# Altium integrated library NSC Legacy.IntLib: 687 symbols (part 7 of 17)
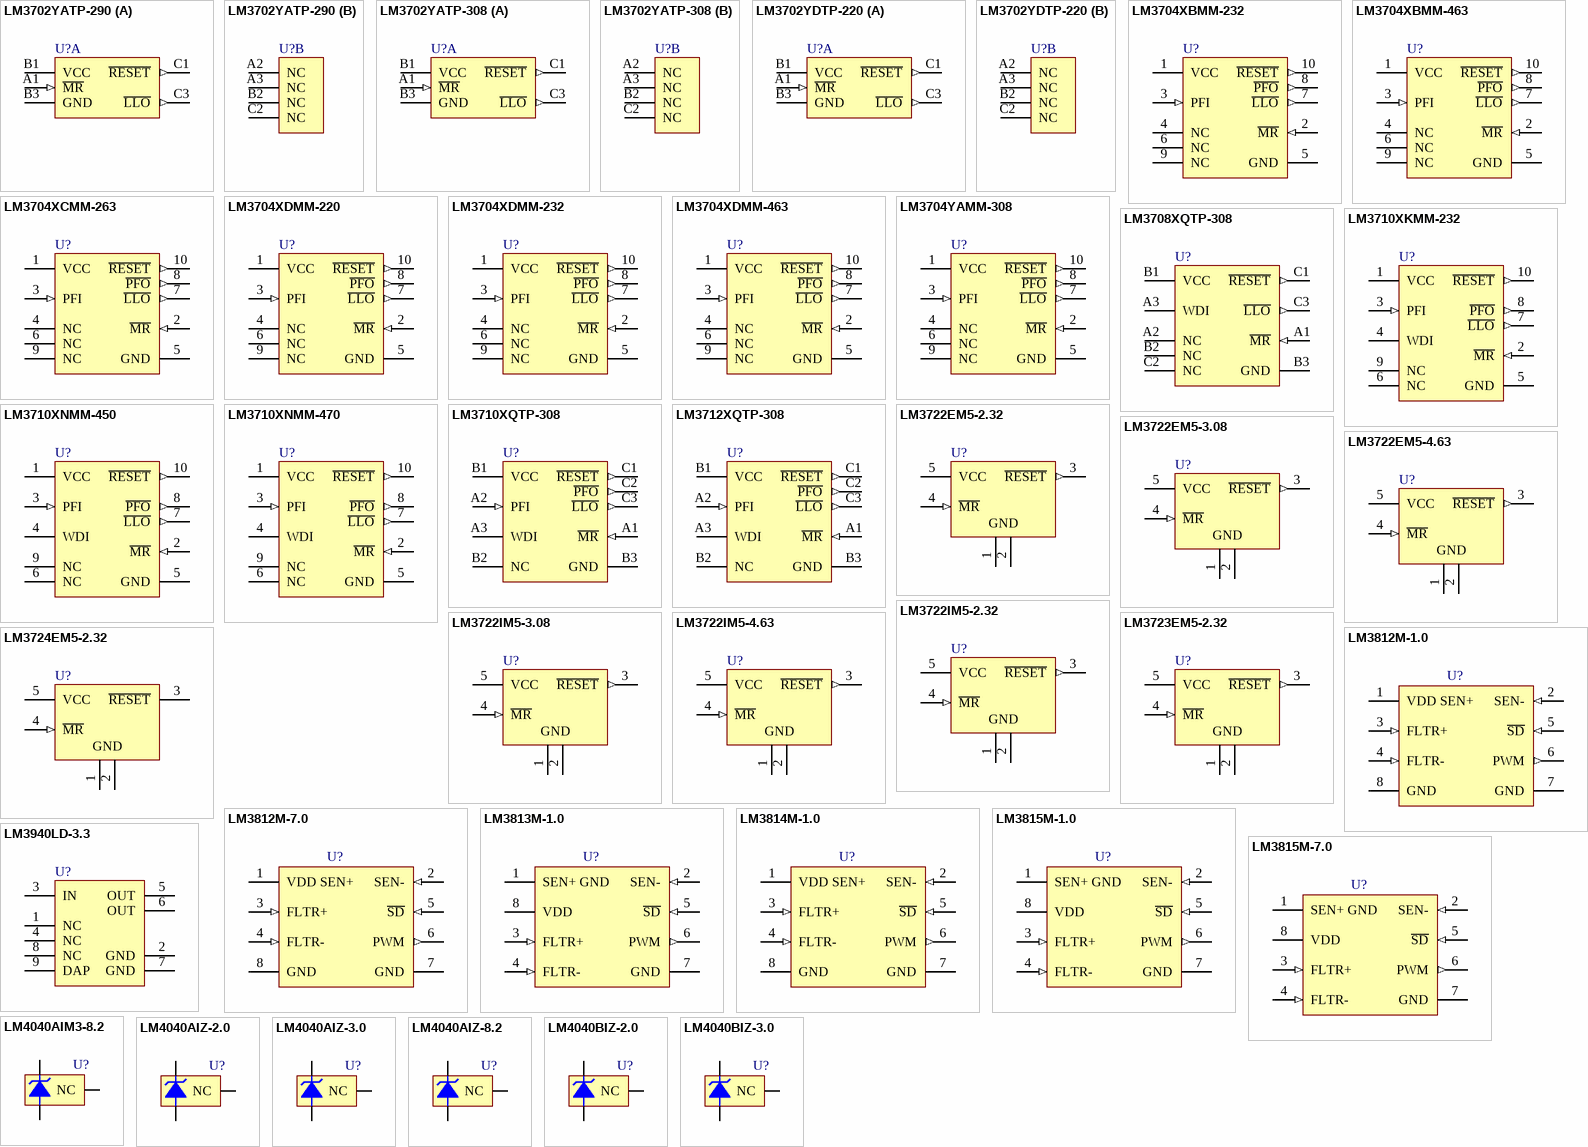
[diagram p30: symbols LM3702YATP-290 to LM4040BIZ-3.0]

## LM3708XQTP-308
designator U?
Microprocessor Supervisory Circuits with Low Line Output, Manual Reset and Watchdog Timer, 9-pin Micro SMD; PartNumber: LM3708XQTP-308; Manufacturer: National Semiconductor; PackageTopMarking: XVR*I 36; PowerWise: N; CompType: MiscPower; Published: 4-Dec-2008; DatasheetVersion: Jun-2002; PackageVersion: revA, Mar-2002; PackageReference: TPA09FFA; Publisher: Altium Limited; PackageDescription: Thin Micro SMD, 9 Bump, 0.5mm Pitch; RoHS: Y; PinCount: 9; Code_JEDEC: MO-211-BC; ComponentLink1Description: LM3708 Datasheet; ComponentLink1URL: http://www.national.com/ds/LM/LM3708.pdf; ComponentLink2Description: LM3708 Web Page; ComponentLink2URL: http://www.national.com/pf/LM/LM3708.html; ComponentLink3Description: TPA09FFA Package Page; ComponentLink3URL: http://www.national.com/packaging/folders/tpa09ffa.html
footprint TPA09FFA (Micro SMD, 9-Leads, Body 1.41x1.41mm, Pitch 0.5mm, NSC Recommended)
pins: A1 ~{MR} (in), A2 NC, A3 WDI, B1 VCC (power), B2 NC, B3 GND (power), C1 ~{RESET} (out), C2 NC, C3 ~{LLO} (out)

## LM3710XKMM-232
designator U?
Microprocessor Supervisory Circuits with Power Fail Input, Low Line Output, Manual Reset and Watchdog Timer, 10-pin MSOP; PartNumber: LM3710XKMM-232; Manufacturer: National Semiconductor; PackageTopMarking: ZXTT*R72B; CompType: MiscPower; Published: 4-Dec-2008; DatasheetVersion: Jan-2005; PackageVersion: revB, Jul-2003; PackageReference: MUB10A; Publisher: Altium Limited; PackageDescription: Mini-SO, Molded, .118 x .118 x .034in Body, 10 Lead, .0197in Pitch; RoHS: Y; PinCount: 10; Code_JEDEC: MO-187-BA; ComponentLink1Description: LM3710 Datasheet; ComponentLink1URL: http://www.national.com/ds/LM/LM3710.pdf; ComponentLink2Description: LM3710 Web Page; ComponentLink2URL: http://www.national.com/pf/LM/LM3710.html; ComponentLink3Description: MUB10A Package Page; ComponentLink3URL: http://www.national.com/packaging/folders/mub10a.html
footprint MUB10A_N (TSSOP, 10-Leads, Body 3x3mm, Pitch 0.5mm, IPC Medium Density)
footprint MUB10A_L (TSSOP, 10-Leads, Body 3x3mm, Pitch 0.5mm, IPC High Density)
footprint MUB10A_M (TSSOP, 10-Leads, Body 3x3mm, Pitch 0.5mm, IPC Low Density)
pins: 1 VCC (power), 2 ~{MR} (in), 3 PFI (in), 4 WDI, 5 GND (power), 6 NC, 7 ~{LLO} (out), 8 ~{PFO} (out), 9 NC, 10 ~{RESET} (out)

## LM3710XNMM-450
designator U?
Microprocessor Supervisory Circuits with Power Fail Input, Low Line Output, Manual Reset and Watchdog Timer, 10-pin MSOP; PartNumber: LM3710XNMM-450; Manufacturer: National Semiconductor; PackageTopMarking: ZXTT*R84B; CompType: MiscPower; Published: 4-Dec-2008; DatasheetVersion: Jan-2005; PackageVersion: revB, Jul-2003; PackageReference: MUB10A; Publisher: Altium Limited; PackageDescription: Mini-SO, Molded, .118 x .118 x .034in Body, 10 Lead, .0197in Pitch; RoHS: Y; PinCount: 10; Code_JEDEC: MO-187-BA; ComponentLink1Description: LM3710 Datasheet; ComponentLink1URL: http://www.national.com/ds/LM/LM3710.pdf; ComponentLink2Description: LM3710 Web Page; ComponentLink2URL: http://www.national.com/pf/LM/LM3710.html; ComponentLink3Description: MUB10A Package Page; ComponentLink3URL: http://www.national.com/packaging/folders/mub10a.html
footprint MUB10A_N (TSSOP, 10-Leads, Body 3x3mm, Pitch 0.5mm, IPC Medium Density)
footprint MUB10A_L (TSSOP, 10-Leads, Body 3x3mm, Pitch 0.5mm, IPC High Density)
footprint MUB10A_M (TSSOP, 10-Leads, Body 3x3mm, Pitch 0.5mm, IPC Low Density)
pins: 1 VCC (power), 2 ~{MR} (in), 3 PFI (in), 4 WDI, 5 GND (power), 6 NC, 7 ~{LLO} (out), 8 ~{PFO} (out), 9 NC, 10 ~{RESET} (out)

## LM3710XNMM-470
designator U?
Microprocessor Supervisory Circuits with Power Fail Input, Low Line Output, Manual Reset and Watchdog Timer, 10-pin MSOP; PartNumber: LM3710XNMM-470; Manufacturer: National Semiconductor; PackageTopMarking: ZXTT*R83B; CompType: MiscPower; Published: 4-Dec-2008; DatasheetVersion: Jan-2005; PackageVersion: revB, Jul-2003; PackageReference: MUB10A; Publisher: Altium Limited; PackageDescription: Mini-SO, Molded, .118 x .118 x .034in Body, 10 Lead, .0197in Pitch; RoHS: Y; PinCount: 10; Code_JEDEC: MO-187-BA; ComponentLink1Description: LM3710 Datasheet; ComponentLink1URL: http://www.national.com/ds/LM/LM3710.pdf; ComponentLink2Description: LM3710 Web Page; ComponentLink2URL: http://www.national.com/pf/LM/LM3710.html; ComponentLink3Description: MUB10A Package Page; ComponentLink3URL: http://www.national.com/packaging/folders/mub10a.html
footprint MUB10A_N (TSSOP, 10-Leads, Body 3x3mm, Pitch 0.5mm, IPC Medium Density)
footprint MUB10A_L (TSSOP, 10-Leads, Body 3x3mm, Pitch 0.5mm, IPC High Density)
footprint MUB10A_M (TSSOP, 10-Leads, Body 3x3mm, Pitch 0.5mm, IPC Low Density)
pins: 1 VCC (power), 2 ~{MR} (in), 3 PFI (in), 4 WDI, 5 GND (power), 6 NC, 7 ~{LLO} (out), 8 ~{PFO} (out), 9 NC, 10 ~{RESET} (out)

## LM3710XQTP-308
designator U?
Microprocessor Supervisory Circuits with Power Fail Input, Low Line Output, Manual Reset and Watchdog Timer, 9-pin Micro SMD; PartNumber: LM3710XQTP-308; Manufacturer: National Semiconductor; PackageTopMarking: XVR*I 40; PowerWise: N; CompType: MiscPower; Published: 4-Dec-2008; DatasheetVersion: Jan-2005; PackageVersion: revA, Mar-2002; PackageReference: TPA09FFA; Publisher: Altium Limited; PackageDescription: Thin Micro SMD, 9 Bump, 0.5mm Pitch; RoHS: Y; PinCount: 9; Code_JEDEC: MO-211-BC; ComponentLink1Description: LM3710 Datasheet; ComponentLink1URL: http://www.national.com/ds/LM/LM3710.pdf; ComponentLink2Description: LM3710 Web Page; ComponentLink2URL: http://www.national.com/pf/LM/LM3710.html; ComponentLink3Description: TPA09FFA Package Page; ComponentLink3URL: http://www.national.com/packaging/folders/tpa09ffa.html
footprint TPA09FFA (Micro SMD, 9-Leads, Body 1.41x1.41mm, Pitch 0.5mm, NSC Recommended)
pins: A1 ~{MR} (in), A2 PFI (in), A3 WDI, B1 VCC (power), B2 NC, B3 GND (power), C1 ~{RESET} (out), C2 ~{PFO} (out), C3 ~{LLO} (out)

## LM3712XQTP-308
designator U?
Microprocessor Supervisory Circuits with Separate Watchdog Timer Output, Power Fail Input and Manual Reset, 9-pin Micro SMD; PartNumber: LM3712XQTP-308; Manufacturer: National Semiconductor; PackageTopMarking: XVR*I 41; PowerWise: N; CompType: MiscPower; Published: 4-Dec-2008; DatasheetVersion: Jan-2005; PackageVersion: revA, Mar-2002; PackageReference: TPA09FFA; Publisher: Altium Limited; PackageDescription: Thin Micro SMD, 9 Bump, 0.5mm Pitch; RoHS: Y; PinCount: 9; Code_JEDEC: MO-211-BC; ComponentLink1Description: LM3712 Datasheet; ComponentLink1URL: http://www.national.com/ds/LM/LM3710.pdf; ComponentLink2Description: LM3712 Web Page; ComponentLink2URL: http://www.national.com/pf/LM/LM3712.html; ComponentLink3Description: TPA09FFA Package Page; ComponentLink3URL: http://www.national.com/packaging/folders/tpa09ffa.html
footprint TPA09FFA (Micro SMD, 9-Leads, Body 1.41x1.41mm, Pitch 0.5mm, NSC Recommended)
pins: A1 ~{MR} (in), A2 PFI (in), A3 WDI, B1 VCC (power), B2 NC, B3 GND (power), C1 ~{RESET} (out), C2 ~{PFO} (out), C3 ~{LLO} (out)

## LM3722EM5-2.32
designator U?
Microprocessor Reset Circuits, 5-pin SOT-23; PartNumber: LM3722EM5-2.32; Manufacturer: National Semiconductor; PackageTopMarking: R58B*XTT; CompType: MiscPower; Published: 4-Dec-2008; DatasheetVersion: Jul-2007; PackageVersion: revD, Aug-2008; PackageReference: MF05A; Publisher: Altium Limited; PackageDescription: Molded SOT-23, .115 x .063 x .040 in Body, 5 Lead, .0375 in Pitch; Supplier 1: Farnell; Supplier Part Number 1: 1312726; RoHS: Y; PinCount: 5; ComponentLink1Description: LM3722 Datasheet; ComponentLink1URL: http://www.national.com/ds/LM/LM3722.pdf; ComponentLink2Description: LM3722 Web Page; ComponentLink2URL: http://www.national.com/pf/LM/LM3722.html; ComponentLink3Description: MF05A Package Page; ComponentLink3URL: http://www.national.com/packaging/folders/mf05a.html
footprint MF05A_N (SOT23, 5-Leads, Body 2.9x1.6mm, Pitch 0.95mm, Lead Span 2.8mm, IPC Medium Density)
footprint MF05A_L (SOT23, 5-Leads, Body 2.9x1.6mm, Pitch 0.95mm, Lead Span 2.8mm, IPC High Density)
footprint MF05A_M (SOT23, 5-Leads, Body 2.9x1.6mm, Pitch 0.95mm, Lead Span 2.8mm, IPC Low Density)
pins: 1 GND (power), 2 GND (power), 3 ~{RESET} (out), 4 ~{MR} (in), 5 VCC (power)

## LM3722EM5-3.08
designator U?
Microprocessor Reset Circuits, 5-pin SOT-23; PartNumber: LM3722EM5-3.08; Manufacturer: National Semiconductor; PackageTopMarking: R57B*XTT; CompType: MiscPower; Published: 4-Dec-2008; DatasheetVersion: Jul-2007; PackageVersion: revD, Aug-2008; PackageReference: MF05A; Publisher: Altium Limited; PackageDescription: Molded SOT-23, .115 x .063 x .040 in Body, 5 Lead, .0375 in Pitch; Supplier 1: Farnell; Supplier Part Number 1: 1312727; RoHS: Y; PinCount: 5; ComponentLink1Description: LM3722 Datasheet; ComponentLink1URL: http://www.national.com/ds/LM/LM3722.pdf; ComponentLink2Description: LM3722 Web Page; ComponentLink2URL: http://www.national.com/pf/LM/LM3722.html; ComponentLink3Description: MF05A Package Page; ComponentLink3URL: http://www.national.com/packaging/folders/mf05a.html
footprint MF05A_N (SOT23, 5-Leads, Body 2.9x1.6mm, Pitch 0.95mm, Lead Span 2.8mm, IPC Medium Density)
footprint MF05A_L (SOT23, 5-Leads, Body 2.9x1.6mm, Pitch 0.95mm, Lead Span 2.8mm, IPC High Density)
footprint MF05A_M (SOT23, 5-Leads, Body 2.9x1.6mm, Pitch 0.95mm, Lead Span 2.8mm, IPC Low Density)
pins: 1 GND (power), 2 GND (power), 3 ~{RESET} (out), 4 ~{MR} (in), 5 VCC (power)

## LM3722EM5-4.63
designator U?
Microprocessor Reset Circuits, 5-pin SOT-23; PartNumber: LM3722EM5-4.63; Manufacturer: National Semiconductor; PackageTopMarking: R56B*XTT; PowerWise: N; CompType: MiscPower; Published: 4-Dec-2008; DatasheetVersion: Jul-2007; PackageVersion: revD, Aug-2008; PackageReference: MF05A; Publisher: Altium Limited; PackageDescription: Molded SOT-23, .115 x .063 x .040 in Body, 5 Lead, .0375 in Pitch; Supplier 1: Farnell; Supplier Part Number 1: 1312729; RoHS: Y; PinCount: 5; ComponentLink1Description: LM3722 Datasheet; ComponentLink1URL: http://www.national.com/ds/LM/LM3722.pdf; ComponentLink2Description: LM3722 Web Page; ComponentLink2URL: http://www.national.com/pf/LM/LM3722.html; ComponentLink3Description: MF05A Package Page; ComponentLink3URL: http://www.national.com/packaging/folders/mf05a.html
footprint MF05A_N (SOT23, 5-Leads, Body 2.9x1.6mm, Pitch 0.95mm, Lead Span 2.8mm, IPC Medium Density)
footprint MF05A_L (SOT23, 5-Leads, Body 2.9x1.6mm, Pitch 0.95mm, Lead Span 2.8mm, IPC High Density)
footprint MF05A_M (SOT23, 5-Leads, Body 2.9x1.6mm, Pitch 0.95mm, Lead Span 2.8mm, IPC Low Density)
pins: 1 GND (power), 2 GND (power), 3 ~{RESET} (out), 4 ~{MR} (in), 5 VCC (power)

## LM3722IM5-2.32
designator U?
Microprocessor Reset Circuits, 5-pin SOT-23; PartNumber: LM3722IM5-2.32; Manufacturer: National Semiconductor; PackageTopMarking: R34B*XTT; PowerWise: N; CompType: MiscPower; Published: 4-Dec-2008; DatasheetVersion: Jul-2007; PackageVersion: revD, Aug-2008; PackageReference: MF05A; Publisher: Altium Limited; PackageDescription: Molded SOT-23, .115 x .063 x .040 in Body, 5 Lead, .0375 in Pitch; Supplier 1: Farnell; Supplier Part Number 1: 9779000; RoHS: Y; PinCount: 5; ComponentLink1Description: LM3722 Datasheet; ComponentLink1URL: http://www.national.com/ds/LM/LM3722.pdf; ComponentLink2Description: LM3722 Web Page; ComponentLink2URL: http://www.national.com/pf/LM/LM3722.html; ComponentLink3Description: MF05A Package Page; ComponentLink3URL: http://www.national.com/packaging/folders/mf05a.html
footprint MF05A_N (SOT23, 5-Leads, Body 2.9x1.6mm, Pitch 0.95mm, Lead Span 2.8mm, IPC Medium Density)
footprint MF05A_L (SOT23, 5-Leads, Body 2.9x1.6mm, Pitch 0.95mm, Lead Span 2.8mm, IPC High Density)
footprint MF05A_M (SOT23, 5-Leads, Body 2.9x1.6mm, Pitch 0.95mm, Lead Span 2.8mm, IPC Low Density)
pins: 1 GND (power), 2 GND (power), 3 ~{RESET} (out), 4 ~{MR} (in), 5 VCC (power)

## LM3722IM5-3.08
designator U?
Microprocessor Reset Circuits, 5-pin SOT-23; PartNumber: LM3722IM5-3.08; Manufacturer: National Semiconductor; PackageTopMarking: R41B*XTT; PowerWise: N; CompType: MiscPower; Published: 4-Dec-2008; DatasheetVersion: Jul-2007; PackageVersion: revD, Aug-2008; PackageReference: MF05A; Publisher: Altium Limited; PackageDescription: Molded SOT-23, .115 x .063 x .040 in Body, 5 Lead, .0375 in Pitch; Supplier 1: Farnell; Supplier Part Number 1: 9779019; RoHS: Y; PinCount: 5; ComponentLink1Description: LM3722 Datasheet; ComponentLink1URL: http://www.national.com/ds/LM/LM3722.pdf; ComponentLink2Description: LM3722 Web Page; ComponentLink2URL: http://www.national.com/pf/LM/LM3722.html; ComponentLink3Description: MF05A Package Page; ComponentLink3URL: http://www.national.com/packaging/folders/mf05a.html
footprint MF05A_N (SOT23, 5-Leads, Body 2.9x1.6mm, Pitch 0.95mm, Lead Span 2.8mm, IPC Medium Density)
footprint MF05A_L (SOT23, 5-Leads, Body 2.9x1.6mm, Pitch 0.95mm, Lead Span 2.8mm, IPC High Density)
footprint MF05A_M (SOT23, 5-Leads, Body 2.9x1.6mm, Pitch 0.95mm, Lead Span 2.8mm, IPC Low Density)
pins: 1 GND (power), 2 GND (power), 3 ~{RESET} (out), 4 ~{MR} (in), 5 VCC (power)

## LM3722IM5-4.63
designator U?
Microprocessor Reset Circuits, 5-pin SOT-23; PartNumber: LM3722IM5-4.63; Manufacturer: National Semiconductor; PackageTopMarking: R43B*XTT; PowerWise: N; CompType: MiscPower; Published: 4-Dec-2008; DatasheetVersion: Jul-2007; PackageVersion: revD, Aug-2008; PackageReference: MF05A; Publisher: Altium Limited; PackageDescription: Molded SOT-23, .115 x .063 x .040 in Body, 5 Lead, .0375 in Pitch; Supplier 1: Farnell; Supplier Part Number 1: 9779027; RoHS: Y; PinCount: 5; ComponentLink1Description: LM3722 Datasheet; ComponentLink1URL: http://www.national.com/ds/LM/LM3722.pdf; ComponentLink2Description: LM3722 Web Page; ComponentLink2URL: http://www.national.com/pf/LM/LM3722.html; ComponentLink3Description: MF05A Package Page; ComponentLink3URL: http://www.national.com/packaging/folders/mf05a.html
footprint MF05A_N (SOT23, 5-Leads, Body 2.9x1.6mm, Pitch 0.95mm, Lead Span 2.8mm, IPC Medium Density)
footprint MF05A_L (SOT23, 5-Leads, Body 2.9x1.6mm, Pitch 0.95mm, Lead Span 2.8mm, IPC High Density)
footprint MF05A_M (SOT23, 5-Leads, Body 2.9x1.6mm, Pitch 0.95mm, Lead Span 2.8mm, IPC Low Density)
pins: 1 GND (power), 2 GND (power), 3 ~{RESET} (out), 4 ~{MR} (in), 5 VCC (power)

## LM3723EM5-2.32
designator U?
Microprocessor Reset Circuits, 5-pin SOT-23; PartNumber: LM3723EM5-2.32; Manufacturer: National Semiconductor; PackageTopMarking: R61B*XTT; CompType: MiscPower; Published: 4-Dec-2008; DatasheetVersion: Jul-2007; PackageVersion: revD, Aug-2008; PackageReference: MF05A; Publisher: Altium Limited; PackageDescription: Molded SOT-23, .115 x .063 x .040 in Body, 5 Lead, .0375 in Pitch; Supplier 1: Farnell; Supplier Part Number 1: 1312731; RoHS: Y; PinCount: 5; ComponentLink1Description: LM3723 Datasheet; ComponentLink1URL: http://www.national.com/ds/LM/LM3723.pdf; ComponentLink2Description: LM3723 Web Page; ComponentLink2URL: http://www.national.com/pf/LM/LM3723.html; ComponentLink3Description: MF05A Package Page; ComponentLink3URL: http://www.national.com/packaging/folders/mf05a.html
footprint MF05A_N (SOT23, 5-Leads, Body 2.9x1.6mm, Pitch 0.95mm, Lead Span 2.8mm, IPC Medium Density)
footprint MF05A_L (SOT23, 5-Leads, Body 2.9x1.6mm, Pitch 0.95mm, Lead Span 2.8mm, IPC High Density)
footprint MF05A_M (SOT23, 5-Leads, Body 2.9x1.6mm, Pitch 0.95mm, Lead Span 2.8mm, IPC Low Density)
pins: 1 GND (power), 2 GND (power), 3 ~{RESET} (out), 4 ~{MR} (in), 5 VCC (power)

## LM3724EM5-2.32
designator U?
Microprocessor Reset Circuits, 5-pin SOT-23; PartNumber: LM3724EM5-2.32; Manufacturer: National Semiconductor; PackageTopMarking: R64B*XTT; CompType: MiscPower; Published: 4-Dec-2008; DatasheetVersion: Jul-2007; PackageVersion: revD, Aug-2008; PackageReference: MF05A; Publisher: Altium Limited; PackageDescription: Molded SOT-23, .115 x .063 x .040 in Body, 5 Lead, .0375 in Pitch; Supplier 1: Farnell; Supplier Part Number 1: 1312734; RoHS: Y; PinCount: 5; ComponentLink1Description: LM3724 Datasheet; ComponentLink1URL: http://www.national.com/ds/LM/LM3724.pdf; ComponentLink2Description: LM3724 Web Page; ComponentLink2URL: http://www.national.com/pf/LM/LM3724.html; ComponentLink3Description: MF05A Package Page; ComponentLink3URL: http://www.national.com/packaging/folders/mf05a.html
footprint MF05A_N (SOT23, 5-Leads, Body 2.9x1.6mm, Pitch 0.95mm, Lead Span 2.8mm, IPC Medium Density)
footprint MF05A_L (SOT23, 5-Leads, Body 2.9x1.6mm, Pitch 0.95mm, Lead Span 2.8mm, IPC High Density)
footprint MF05A_M (SOT23, 5-Leads, Body 2.9x1.6mm, Pitch 0.95mm, Lead Span 2.8mm, IPC Low Density)
pins: 1 GND (power), 2 GND (power), 3 ~{RESET} (oc), 4 ~{MR} (in), 5 VCC (power)

## LM3812M-1.0
designator U?
Precision Current Gauge IC with Ultra-Low Loss Sense Element and PWM Output, for High-Side Sensing, 8-pin Narrow SOIC; PartNumber: LM3812M-1.0; Manufacturer: National Semiconductor; PackageTopMarking: NSZXTT*3812*M-1.0; CompType: MiscPower; Published: 4-Dec-2008; DatasheetVersion: Feb-2005; PackageVersion: revM, May-2009; PackageReference: M08A; Publisher: Altium Limited; PackageDescription: SOIC Narrow, 4.9 x 3.9 x 1.45mm, 8 Lead, 1.27mm Pitch; RoHS: Y; PinCount: 8; Code_JEDEC: MS-012-AA; Code_IPC: SOIC127P600-8; ComponentLink1Description: LM3812 Datasheet; ComponentLink1URL: http://www.national.com/ds/LM/LM3812.pdf; ComponentLink2Description: LM3812 Web Page; ComponentLink2URL: http://www.national.com/pf/LM/LM3812.html; ComponentLink3Description: M08A Package Page; ComponentLink3URL: http://www.national.com/packaging/folders/m08a.html
footprint M08A_N (SOIC, 8-Leads, Body 4.9x3.9mm, Pitch 1.27mm, IPC Medium Density)
footprint M08A_L (SOIC, 8-Leads, Body 4.9x3.9mm, Pitch 1.27mm, IPC High Density)
footprint M08A_M (SOIC, 8-Leads, Body 4.9x3.9mm, Pitch 1.27mm, IPC Low Density)
pins: 1 VDD SEN+ (power), 2 SEN- (in), 3 FLTR+ (in), 4 FLTR- (in), 5 ~{SD} (in), 6 PWM (out), 7 GND (power), 8 GND (power)

## LM3812M-7.0
designator U?
Precision Current Gauge IC with Ultra-Low Loss Sense Element and PWM Output, for High-Side Sensing, 8-pin Narrow SOIC; PartNumber: LM3812M-7.0; Manufacturer: National Semiconductor; PackageTopMarking: NSZXTT*3812*M-7.0; CompType: MiscPower; Published: 4-Dec-2008; DatasheetVersion: Feb-2005; PackageVersion: revM, May-2009; PackageReference: M08A; Publisher: Altium Limited; PackageDescription: SOIC Narrow, 4.9 x 3.9 x 1.45mm, 8 Lead, 1.27mm Pitch; RoHS: Y; PinCount: 8; Code_JEDEC: MS-012-AA; Code_IPC: SOIC127P600-8; ComponentLink1Description: LM3812 Datasheet; ComponentLink1URL: http://www.national.com/ds/LM/LM3812.pdf; ComponentLink2Description: LM3812 Web Page; ComponentLink2URL: http://www.national.com/pf/LM/LM3812.html; ComponentLink3Description: M08A Package Page; ComponentLink3URL: http://www.national.com/packaging/folders/m08a.html
footprint M08A_N (SOIC, 8-Leads, Body 4.9x3.9mm, Pitch 1.27mm, IPC Medium Density)
footprint M08A_L (SOIC, 8-Leads, Body 4.9x3.9mm, Pitch 1.27mm, IPC High Density)
footprint M08A_M (SOIC, 8-Leads, Body 4.9x3.9mm, Pitch 1.27mm, IPC Low Density)
pins: 1 VDD SEN+ (power), 2 SEN- (in), 3 FLTR+ (in), 4 FLTR- (in), 5 ~{SD} (in), 6 PWM (out), 7 GND (power), 8 GND (power)

## LM3813M-1.0
designator U?
Precision Current Gauge IC with Ultra Low Loss Sense Element and PWM Output, for Low-Side Sensing, 8-pin Narrow SOIC; PartNumber: LM3813M-1.0; Manufacturer: National Semiconductor; PackageTopMarking: NSZXTT*3813*M-1.0; CompType: MiscPower; Published: 4-Dec-2008; DatasheetVersion: Feb-2005; PackageVersion: revM, May-2009; PackageReference: M08A; Publisher: Altium Limited; PackageDescription: SOIC Narrow, 4.9 x 3.9 x 1.45mm, 8 Lead, 1.27mm Pitch; RoHS: Y; PinCount: 8; Code_JEDEC: MS-012-AA; Code_IPC: SOIC127P600-8; ComponentLink1Description: LM3813 Datasheet; ComponentLink1URL: http://www.national.com/ds/LM/LM3813.pdf; ComponentLink2Description: LM3813 Web Page; ComponentLink2URL: http://www.national.com/pf/LM/LM3813.html; ComponentLink3Description: M08A Package Page; ComponentLink3URL: http://www.national.com/packaging/folders/m08a.html
footprint M08A_N (SOIC, 8-Leads, Body 4.9x3.9mm, Pitch 1.27mm, IPC Medium Density)
footprint M08A_L (SOIC, 8-Leads, Body 4.9x3.9mm, Pitch 1.27mm, IPC High Density)
footprint M08A_M (SOIC, 8-Leads, Body 4.9x3.9mm, Pitch 1.27mm, IPC Low Density)
pins: 1 SEN+ GND (power), 2 SEN- (in), 3 FLTR+ (in), 4 FLTR- (in), 5 ~{SD} (in), 6 PWM (out), 7 GND (power), 8 VDD (power)

## LM3814M-1.0
designator U?
Fast Current Gauge IC with Ultra-Low Loss Sense Element and PWM Output, for High-Side Sensing, 8-pin Narrow SOIC; PartNumber: LM3814M-1.0; Manufacturer: National Semiconductor; PackageTopMarking: NSZXTT*3814*M-1.0; CompType: MiscPower; Published: 4-Dec-2008; DatasheetVersion: Feb-2005; PackageVersion: revM, May-2009; PackageReference: M08A; Publisher: Altium Limited; PackageDescription: SOIC Narrow, 4.9 x 3.9 x 1.45mm, 8 Lead, 1.27mm Pitch; RoHS: Y; PinCount: 8; Code_JEDEC: MS-012-AA; Code_IPC: SOIC127P600-8; ComponentLink1Description: LM3814 Datasheet; ComponentLink1URL: http://www.national.com/ds/LM/LM3814.pdf; ComponentLink2Description: LM3814 Web Page; ComponentLink2URL: http://www.national.com/pf/LM/LM3814.html; ComponentLink3Description: M08A Package Page; ComponentLink3URL: http://www.national.com/packaging/folders/m08a.html
footprint M08A_N (SOIC, 8-Leads, Body 4.9x3.9mm, Pitch 1.27mm, IPC Medium Density)
footprint M08A_L (SOIC, 8-Leads, Body 4.9x3.9mm, Pitch 1.27mm, IPC High Density)
footprint M08A_M (SOIC, 8-Leads, Body 4.9x3.9mm, Pitch 1.27mm, IPC Low Density)
pins: 1 VDD SEN+ (power), 2 SEN- (in), 3 FLTR+ (in), 4 FLTR- (in), 5 ~{SD} (in), 6 PWM (out), 7 GND (power), 8 GND (power)

## LM3815M-1.0
designator U?
Fast Current Gauge IC with Ultra Low Loss Sense Element and PWM Output, for Low-Side Sensing, 8-pin Narrow SOIC; PartNumber: LM3815M-1.0; Manufacturer: National Semiconductor; PackageTopMarking: NSZXTT*3815*M-1.0; CompType: MiscPower; Published: 4-Dec-2008; DatasheetVersion: Feb-2005; PackageVersion: revM, May-2009; PackageReference: M08A; Publisher: Altium Limited; PackageDescription: SOIC Narrow, 4.9 x 3.9 x 1.45mm, 8 Lead, 1.27mm Pitch; RoHS: Y; PinCount: 8; Code_JEDEC: MS-012-AA; Code_IPC: SOIC127P600-8; ComponentLink1Description: LM3815 Datasheet; ComponentLink1URL: http://www.national.com/ds/LM/LM3815.pdf; ComponentLink2Description: LM3815 Web Page; ComponentLink2URL: http://www.national.com/pf/LM/LM3815.html; ComponentLink3Description: M08A Package Page; ComponentLink3URL: http://www.national.com/packaging/folders/m08a.html
footprint M08A_N (SOIC, 8-Leads, Body 4.9x3.9mm, Pitch 1.27mm, IPC Medium Density)
footprint M08A_L (SOIC, 8-Leads, Body 4.9x3.9mm, Pitch 1.27mm, IPC High Density)
footprint M08A_M (SOIC, 8-Leads, Body 4.9x3.9mm, Pitch 1.27mm, IPC Low Density)
pins: 1 SEN+ GND (power), 2 SEN- (in), 3 FLTR+ (in), 4 FLTR- (in), 5 ~{SD} (in), 6 PWM (out), 7 GND (power), 8 VDD (power)

## LM3815M-7.0
designator U?
Fast Current Gauge IC with Ultra Low Loss Sense Element and PWM Output, for Low-Side Sensing, 8-pin Narrow SOIC; PartNumber: LM3815M-7.0; Manufacturer: National Semiconductor; PackageTopMarking: NSZXTT*3815*M-7.0; CompType: MiscPower; Published: 4-Dec-2008; DatasheetVersion: Feb-2005; PackageVersion: revM, May-2009; PackageReference: M08A; Publisher: Altium Limited; PackageDescription: SOIC Narrow, 4.9 x 3.9 x 1.45mm, 8 Lead, 1.27mm Pitch; RoHS: Y; PinCount: 8; Code_JEDEC: MS-012-AA; Code_IPC: SOIC127P600-8; ComponentLink1Description: LM3815 Datasheet; ComponentLink1URL: http://www.national.com/ds/LM/LM3815.pdf; ComponentLink2Description: LM3815 Web Page; ComponentLink2URL: http://www.national.com/pf/LM/LM3815.html; ComponentLink3Description: M08A Package Page; ComponentLink3URL: http://www.national.com/packaging/folders/m08a.html
footprint M08A_N (SOIC, 8-Leads, Body 4.9x3.9mm, Pitch 1.27mm, IPC Medium Density)
footprint M08A_L (SOIC, 8-Leads, Body 4.9x3.9mm, Pitch 1.27mm, IPC High Density)
footprint M08A_M (SOIC, 8-Leads, Body 4.9x3.9mm, Pitch 1.27mm, IPC Low Density)
pins: 1 SEN+ GND (power), 2 SEN- (in), 3 FLTR+ (in), 4 FLTR- (in), 5 ~{SD} (in), 6 PWM (out), 7 GND (power), 8 VDD (power)

## LM3940LD-3.3
designator U?
1A Low Dropout Regulator for 5V to 3.3V Conversion, 8-pin LLP; PartNumber: LM3940LD-3.3; Manufacturer: National Semiconductor; PackageTopMarking: NS*UZXYTT*L00013B; CompType: LDO IC; Published: 4-Dec-2008; DatasheetVersion: Jul-2007; PackageVersion: revB, Jun-2003; PackageReference: LDC08A; Publisher: Altium Limited; PackageDescription: LLP, Plastic, Dual, 4 x 4 x 0.75mm Body, 8 Lead, 0.8mm Pitch; RoHS: O; PinCount: 8; ComponentLink1Description: LM3940 Datasheet; ComponentLink1URL: http://www.national.com/ds/LM/LM3940.pdf; ComponentLink2Description: LM3940 Web Page; ComponentLink2URL: http://www.national.com/pf/LM/LM3940.html; ComponentLink3Description: LDC08A Package Page; ComponentLink3URL: http://www.national.com/packaging/folders/ldc08a.html
footprint LDC08A (PSON, 8-Leads, Body 4x4mm, Pitch 0.8mm, NSC Recommended)
pins: 1 NC, 2 GND (power), 3 IN (power), 4 NC, 5 OUT (power), 6 OUT (power), 7 GND (power), 8 NC, 9 DAP (power)

## LM4040AIM3-8.2
designator U?
Precision Micropower Shunt Voltage Reference, 3-pin SOT-23; PartNumber: LM4040AIM3-8.2; Manufacturer: National Semiconductor; PackageTopMarking: R8A*XTT; CompType: Voltage Reference IC; Published: 4-Dec-2008; DatasheetVersion: Apr-2005; PackageVersion: revB, Mar-2003; PackageReference: MF03A; Publisher: Altium Limited; PackageDescription: Molded SOT-23, .115 x .051 x .037in Body, 3 Lead, .075 in Pitch; Supplier 1: Digi-Key; Supplier Part Number 1: LM4040AIM3-8.2DKR-ND; RoHS: Y; PinCount: 3; ComponentLink1Description: LM4040 Datasheet; ComponentLink1URL: http://www.national.com/ds/LM/LM4040.pdf; ComponentLink2Description: LM4040 Web Page; ComponentLink2URL: http://www.national.com/pf/LM/LM4040.html; ComponentLink3Description: MF03A Package Page; ComponentLink3URL: http://www.national.com/packaging/folders/mf03a.html
footprint MF03A_N (SOT23, 3-Leads, Body 2.9x1.3mm, Pitch 0.95mm, Lead Span 2.4mm, IPC Medium Density)
footprint MF03A_L (SOT23, 3-Leads, Body 2.9x1.3mm, Pitch 0.95mm, Lead Span 2.4mm, IPC High Density)
footprint MF03A_M (SOT23, 3-Leads, Body 2.9x1.3mm, Pitch 0.95mm, Lead Span 2.4mm, IPC Low Density)
pins: 1 +V, 2 -V, 3 NC

## LM4040AIZ-2.0
designator U?
Precision Micropower Shunt Voltage Reference, 3-pin TO-92; PartNumber: LM4040AIZ-2.0; Manufacturer: National Semiconductor; PackageTopMarking: NSXYTT*4040A*-2.0; CompType: Voltage Reference IC; Published: 4-Dec-2008; LatestRevisionDate: 15-Jul-2009; LatestRevisionNote: Sch pins 1 & 3 reversed.; DatasheetVersion: Apr-2005; PackageVersion: revG, Sep-2000; PackageReference: Z03A; Publisher: Altium Limited; PackageDescription: TO-92, Molded, 3 Lead; RoHS: Y; PinCount: 3; Code_JEDEC: TO-226-AA; ComponentLink1Description: LM4040 Datasheet; ComponentLink1URL: http://www.national.com/ds/LM/LM4040.pdf; ComponentLink2Description: LM4040 Web Page; ComponentLink2URL: http://www.national.com/pf/LM/LM4040.html; ComponentLink3Description: Z03A Package Page; ComponentLink3URL: http://www.national.com/packaging/folders/z03a.html
footprint Z03A (TO, Flat Index; 3 In-Line, Axial Leads; Body Dia. 5mm; Leads 0.55 x 0.50 mm (max))
pins: 1 NC, 2 +V, 3 -V

## LM4040AIZ-3.0
designator U?
Precision Micropower Shunt Voltage Reference, 3-pin TO-92; PartNumber: LM4040AIZ-3.0; Manufacturer: National Semiconductor; PackageTopMarking: NSXYTT*4040A*-3.0; CompType: Voltage Reference IC; Published: 4-Dec-2008; LatestRevisionDate: 15-Jul-2009; LatestRevisionNote: Sch pins 1 & 3 reversed.; DatasheetVersion: Apr-2005; PackageVersion: revG, Sep-2000; PackageReference: Z03A; Publisher: Altium Limited; PackageDescription: TO-92, Molded, 3 Lead; RoHS: Y; PinCount: 3; Code_JEDEC: TO-226-AA; ComponentLink1Description: LM4040 Datasheet; ComponentLink1URL: http://www.national.com/ds/LM/LM4040.pdf; ComponentLink2Description: LM4040 Web Page; ComponentLink2URL: http://www.national.com/pf/LM/LM4040.html; ComponentLink3Description: Z03A Package Page; ComponentLink3URL: http://www.national.com/packaging/folders/z03a.html
footprint Z03A (TO, Flat Index; 3 In-Line, Axial Leads; Body Dia. 5mm; Leads 0.55 x 0.50 mm (max))
pins: 1 NC, 2 +V, 3 -V

## LM4040AIZ-8.2
designator U?
Precision Micropower Shunt Voltage Reference, 3-pin TO-92; PartNumber: LM4040AIZ-8.2; Manufacturer: National Semiconductor; PackageTopMarking: NSXYTT*4040A*IZ8.2; CompType: Voltage Reference IC; Published: 4-Dec-2008; LatestRevisionDate: 15-Jul-2009; LatestRevisionNote: Sch pins 1 & 3 reversed.; DatasheetVersion: Apr-2005; PackageVersion: revG, Sep-2000; PackageReference: Z03A; Publisher: Altium Limited; PackageDescription: TO-92, Molded, 3 Lead; Supplier 1: Digi-Key; Supplier Part Number 1: LM4040AIZ-8.2-ND; RoHS: Y; PinCount: 3; Code_JEDEC: TO-226-AA; ComponentLink1Description: LM4040 Datasheet; ComponentLink1URL: http://www.national.com/ds/LM/LM4040.pdf; ComponentLink2Description: LM4040 Web Page; ComponentLink2URL: http://www.national.com/pf/LM/LM4040.html; ComponentLink3Description: Z03A Package Page; ComponentLink3URL: http://www.national.com/packaging/folders/z03a.html
footprint Z03A (TO, Flat Index; 3 In-Line, Axial Leads; Body Dia. 5mm; Leads 0.55 x 0.50 mm (max))
pins: 1 NC, 2 +V, 3 -V

## LM4040BIZ-2.0
designator U?
Precision Micropower Shunt Voltage Reference, 3-pin TO-92; PartNumber: LM4040BIZ-2.0; Manufacturer: National Semiconductor; PackageTopMarking: NSXYTT*4040B*-2.0; CompType: Voltage Reference IC; Published: 4-Dec-2008; LatestRevisionDate: 15-Jul-2009; LatestRevisionNote: Sch pins 1 & 3 reversed.; DatasheetVersion: Apr-2005; PackageVersion: revG, Sep-2000; PackageReference: Z03A; Publisher: Altium Limited; PackageDescription: TO-92, Molded, 3 Lead; RoHS: Y; PinCount: 3; Code_JEDEC: TO-226-AA; ComponentLink1Description: LM4040 Datasheet; ComponentLink1URL: http://www.national.com/ds/LM/LM4040.pdf; ComponentLink2Description: LM4040 Web Page; ComponentLink2URL: http://www.national.com/pf/LM/LM4040.html; ComponentLink3Description: Z03A Package Page; ComponentLink3URL: http://www.national.com/packaging/folders/z03a.html
footprint Z03A (TO, Flat Index; 3 In-Line, Axial Leads; Body Dia. 5mm; Leads 0.55 x 0.50 mm (max))
pins: 1 NC, 2 +V, 3 -V

## LM4040BIZ-3.0
designator U?
Precision Micropower Shunt Voltage Reference, 3-pin TO-92; PartNumber: LM4040BIZ-3.0; Manufacturer: National Semiconductor; PackageTopMarking: NSXYTT*4040B*-3.0; CompType: Voltage Reference IC; Published: 4-Dec-2008; LatestRevisionDate: 15-Jul-2009; LatestRevisionNote: Sch pins 1 & 3 reversed.; DatasheetVersion: Apr-2005; PackageVersion: revG, Sep-2000; PackageReference: Z03A; Publisher: Altium Limited; PackageDescription: TO-92, Molded, 3 Lead; RoHS: Y; PinCount: 3; Code_JEDEC: TO-226-AA; ComponentLink1Description: LM4040 Datasheet; ComponentLink1URL: http://www.national.com/ds/LM/LM4040.pdf; ComponentLink2Description: LM4040 Web Page; ComponentLink2URL: http://www.national.com/pf/LM/LM4040.html; ComponentLink3Description: Z03A Package Page; ComponentLink3URL: http://www.national.com/packaging/folders/z03a.html
footprint Z03A (TO, Flat Index; 3 In-Line, Axial Leads; Body Dia. 5mm; Leads 0.55 x 0.50 mm (max))
pins: 1 NC, 2 +V, 3 -V

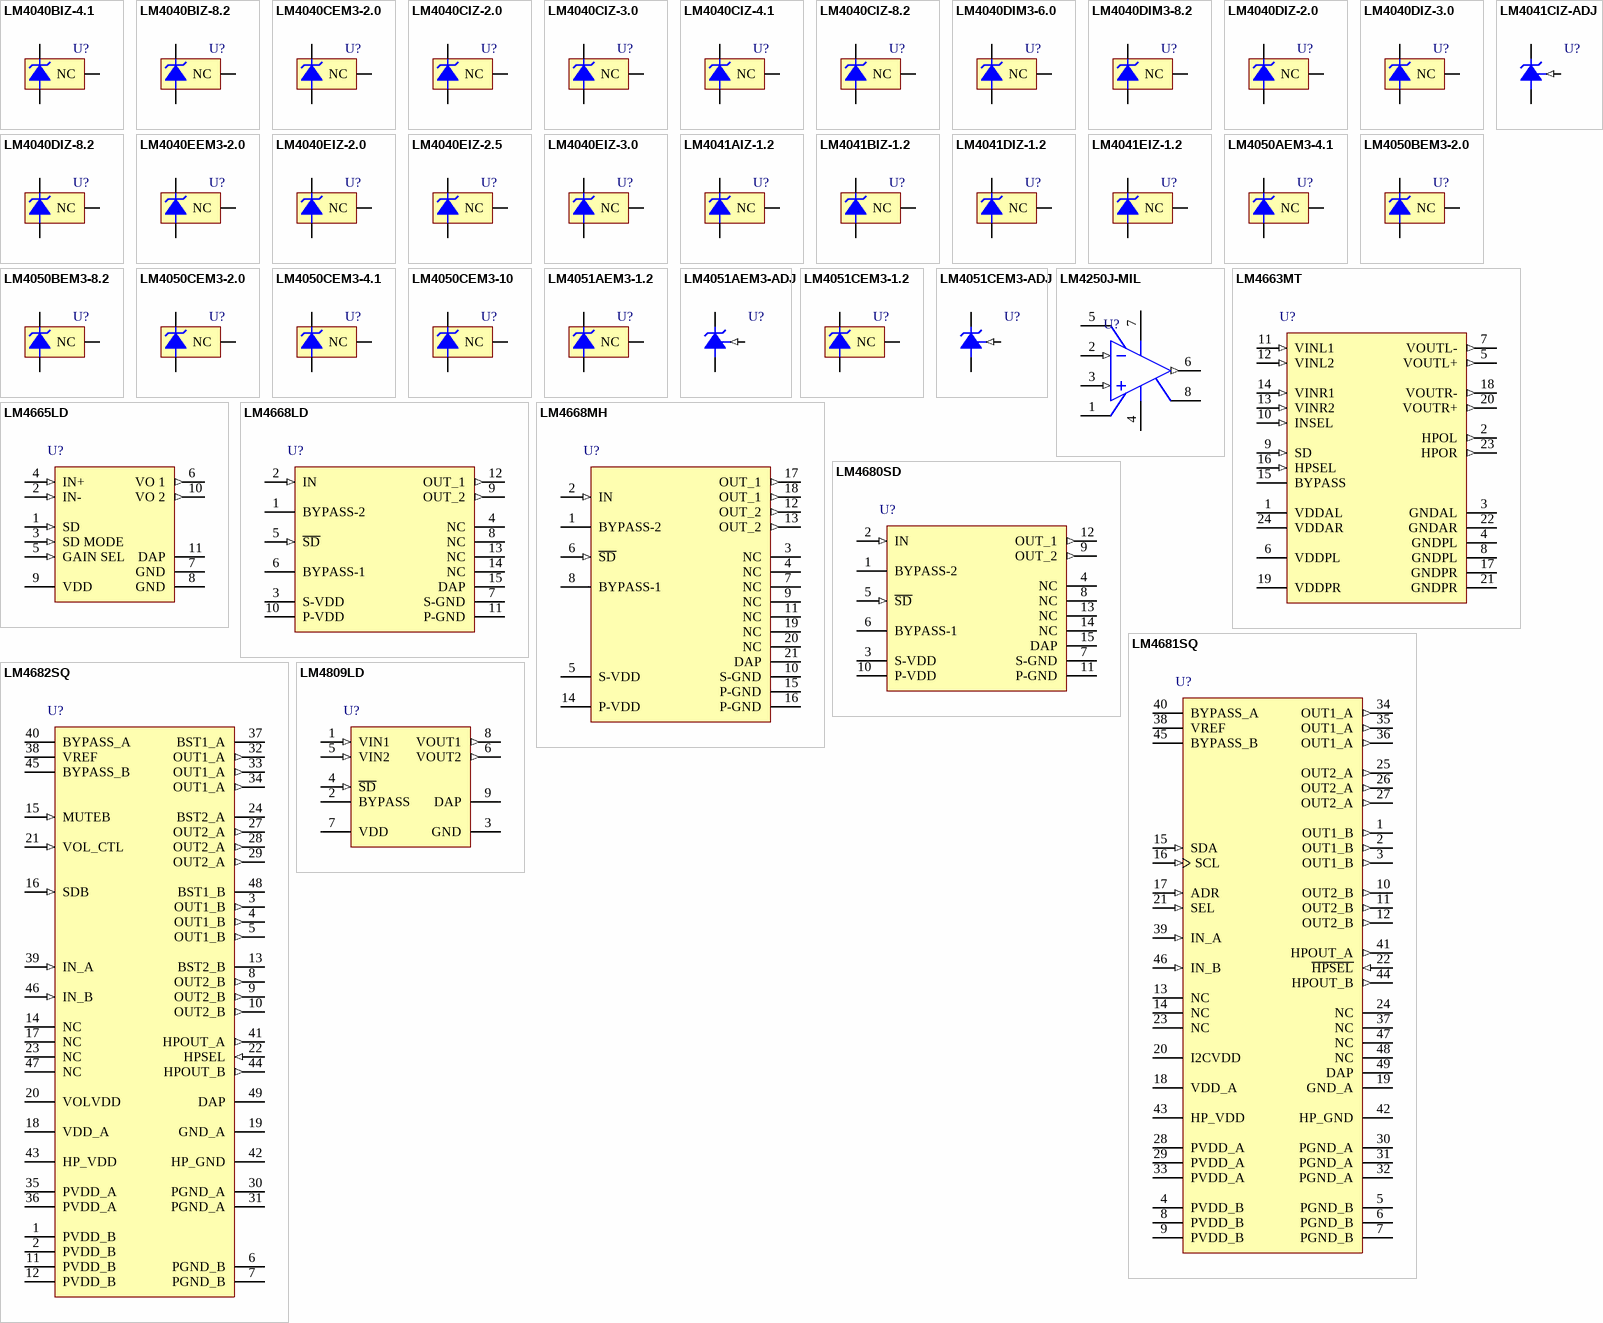
[diagram p11: symbols LM4040BIZ-4.1 to LM4809LD]

## LM4040BIZ-4.1
designator U?
Precision Micropower Shunt Voltage Reference, 3-pin TO-92; PartNumber: LM4040BIZ-4.1; Manufacturer: National Semiconductor; PackageTopMarking: NSXYTT*4040B*IZ4.1; CompType: Voltage Reference IC; Published: 4-Dec-2008; LatestRevisionDate: 15-Jul-2009; LatestRevisionNote: Sch pins 1 & 3 reversed.; DatasheetVersion: Apr-2005; PackageVersion: revG, Sep-2000; PackageReference: Z03A; Publisher: Altium Limited; PackageDescription: TO-92, Molded, 3 Lead; RoHS: O; PinCount: 3; Code_JEDEC: TO-226-AA; ComponentLink1Description: LM4040 Datasheet; ComponentLink1URL: http://www.national.com/ds/LM/LM4040.pdf; ComponentLink2Description: LM4040 Web Page; ComponentLink2URL: http://www.national.com/pf/LM/LM4040.html; ComponentLink3Description: Z03A Package Page; ComponentLink3URL: http://www.national.com/packaging/folders/z03a.html
footprint Z03A (TO, Flat Index; 3 In-Line, Axial Leads; Body Dia. 5mm; Leads 0.55 x 0.50 mm (max))
pins: 1 NC, 2 +V, 3 -V

## LM4040BIZ-8.2
designator U?
Precision Micropower Shunt Voltage Reference, 3-pin TO-92; PartNumber: LM4040BIZ-8.2; Manufacturer: National Semiconductor; PackageTopMarking: NSXYTT*4040B*IZ8.2; CompType: Voltage Reference IC; Published: 4-Dec-2008; LatestRevisionDate: 15-Jul-2009; LatestRevisionNote: Sch pins 1 & 3 reversed.; DatasheetVersion: Apr-2005; PackageVersion: revG, Sep-2000; PackageReference: Z03A; Publisher: Altium Limited; PackageDescription: TO-92, Molded, 3 Lead; Supplier 1: Digi-Key; Supplier Part Number 1: LM4040BIZ-8.2-ND; RoHS: Y; PinCount: 3; Code_JEDEC: TO-226-AA; ComponentLink1Description: LM4040 Datasheet; ComponentLink1URL: http://www.national.com/ds/LM/LM4040.pdf; ComponentLink2Description: LM4040 Web Page; ComponentLink2URL: http://www.national.com/pf/LM/LM4040.html; ComponentLink3Description: Z03A Package Page; ComponentLink3URL: http://www.national.com/packaging/folders/z03a.html
footprint Z03A (TO, Flat Index; 3 In-Line, Axial Leads; Body Dia. 5mm; Leads 0.55 x 0.50 mm (max))
pins: 1 NC, 2 +V, 3 -V

## LM4040CEM3-2.0
designator U?
Precision Micropower Shunt Voltage Reference, 3-pin SOT-23; PartNumber: LM4040CEM3-2.0; Manufacturer: National Semiconductor; PackageTopMarking: RJC*XTT; CompType: Voltage Reference IC; Published: 4-Dec-2008; DatasheetVersion: Apr-2005; PackageVersion: revB, Mar-2003; PackageReference: MF03A; Publisher: Altium Limited; PackageDescription: Molded SOT-23, .115 x .051 x .037in Body, 3 Lead, .075 in Pitch; RoHS: O; PinCount: 3; ComponentLink1Description: LM4040 Datasheet; ComponentLink1URL: http://www.national.com/ds/LM/LM4040.pdf; ComponentLink2Description: LM4040 Web Page; ComponentLink2URL: http://www.national.com/pf/LM/LM4040.html; ComponentLink3Description: MF03A Package Page; ComponentLink3URL: http://www.national.com/packaging/folders/mf03a.html
footprint MF03A_N (SOT23, 3-Leads, Body 2.9x1.3mm, Pitch 0.95mm, Lead Span 2.4mm, IPC Medium Density)
footprint MF03A_L (SOT23, 3-Leads, Body 2.9x1.3mm, Pitch 0.95mm, Lead Span 2.4mm, IPC High Density)
footprint MF03A_M (SOT23, 3-Leads, Body 2.9x1.3mm, Pitch 0.95mm, Lead Span 2.4mm, IPC Low Density)
pins: 1 +V, 2 -V, 3 NC

## LM4040CIZ-2.0
designator U?
Precision Micropower Shunt Voltage Reference, 3-pin TO-92; PartNumber: LM4040CIZ-2.0; Manufacturer: National Semiconductor; PackageTopMarking: NSXYTT*4040C*-2.0; CompType: Voltage Reference IC; Published: 4-Dec-2008; LatestRevisionDate: 15-Jul-2009; LatestRevisionNote: Sch pins 1 & 3 reversed.; DatasheetVersion: Apr-2005; PackageVersion: revG, Sep-2000; PackageReference: Z03A; Publisher: Altium Limited; PackageDescription: TO-92, Molded, 3 Lead; RoHS: Y; PinCount: 3; Code_JEDEC: TO-226-AA; ComponentLink1Description: LM4040 Datasheet; ComponentLink1URL: http://www.national.com/ds/LM/LM4040.pdf; ComponentLink2Description: LM4040 Web Page; ComponentLink2URL: http://www.national.com/pf/LM/LM4040.html; ComponentLink3Description: Z03A Package Page; ComponentLink3URL: http://www.national.com/packaging/folders/z03a.html
footprint Z03A (TO, Flat Index; 3 In-Line, Axial Leads; Body Dia. 5mm; Leads 0.55 x 0.50 mm (max))
pins: 1 NC, 2 +V, 3 -V

## LM4040CIZ-3.0
designator U?
Precision Micropower Shunt Voltage Reference, 3-pin TO-92; PartNumber: LM4040CIZ-3.0; Manufacturer: National Semiconductor; PackageTopMarking: NSXYTT*4040C*-3.0; CompType: Voltage Reference IC; Published: 4-Dec-2008; LatestRevisionDate: 15-Jul-2009; LatestRevisionNote: Sch pins 1 & 3 reversed.; DatasheetVersion: Apr-2005; PackageVersion: revG, Sep-2000; PackageReference: Z03A; Publisher: Altium Limited; PackageDescription: TO-92, Molded, 3 Lead; RoHS: Y; PinCount: 3; Code_JEDEC: TO-226-AA; ComponentLink1Description: LM4040 Datasheet; ComponentLink1URL: http://www.national.com/ds/LM/LM4040.pdf; ComponentLink2Description: LM4040 Web Page; ComponentLink2URL: http://www.national.com/pf/LM/LM4040.html; ComponentLink3Description: Z03A Package Page; ComponentLink3URL: http://www.national.com/packaging/folders/z03a.html
footprint Z03A (TO, Flat Index; 3 In-Line, Axial Leads; Body Dia. 5mm; Leads 0.55 x 0.50 mm (max))
pins: 1 NC, 2 +V, 3 -V

## LM4040CIZ-4.1
designator U?
Precision Micropower Shunt Voltage Reference, 3-pin TO-92; PartNumber: LM4040CIZ-4.1; Manufacturer: National Semiconductor; PackageTopMarking: NSXYTT*4040C*IZ4.1; CompType: Voltage Reference IC; Published: 4-Dec-2008; LatestRevisionDate: 15-Jul-2009; LatestRevisionNote: Sch pins 1 & 3 reversed.; DatasheetVersion: Apr-2005; PackageVersion: revG, Sep-2000; PackageReference: Z03A; Publisher: Altium Limited; PackageDescription: TO-92, Molded, 3 Lead; RoHS: O; PinCount: 3; Code_JEDEC: TO-226-AA; ComponentLink1Description: LM4040 Datasheet; ComponentLink1URL: http://www.national.com/ds/LM/LM4040.pdf; ComponentLink2Description: LM4040 Web Page; ComponentLink2URL: http://www.national.com/pf/LM/LM4040.html; ComponentLink3Description: Z03A Package Page; ComponentLink3URL: http://www.national.com/packaging/folders/z03a.html
footprint Z03A (TO, Flat Index; 3 In-Line, Axial Leads; Body Dia. 5mm; Leads 0.55 x 0.50 mm (max))
pins: 1 NC, 2 +V, 3 -V

## LM4040CIZ-8.2
designator U?
Precision Micropower Shunt Voltage Reference, 3-pin TO-92; PartNumber: LM4040CIZ-8.2; Manufacturer: National Semiconductor; PackageTopMarking: NSXYTT*4040C*IZ8.2; CompType: Voltage Reference IC; Published: 4-Dec-2008; LatestRevisionDate: 15-Jul-2009; LatestRevisionNote: Sch pins 1 & 3 reversed.; DatasheetVersion: Apr-2005; PackageVersion: revG, Sep-2000; PackageReference: Z03A; Publisher: Altium Limited; PackageDescription: TO-92, Molded, 3 Lead; RoHS: Y; PinCount: 3; Code_JEDEC: TO-226-AA; ComponentLink1Description: LM4040 Datasheet; ComponentLink1URL: http://www.national.com/ds/LM/LM4040.pdf; ComponentLink2Description: LM4040 Web Page; ComponentLink2URL: http://www.national.com/pf/LM/LM4040.html; ComponentLink3Description: Z03A Package Page; ComponentLink3URL: http://www.national.com/packaging/folders/z03a.html
footprint Z03A (TO, Flat Index; 3 In-Line, Axial Leads; Body Dia. 5mm; Leads 0.55 x 0.50 mm (max))
pins: 1 NC, 2 +V, 3 -V

## LM4040DIM3-6.0
designator U?
Precision Micropower Shunt Voltage Reference, 3-pin SOT-23; PartNumber: LM4040DIM3-6.0; Manufacturer: National Semiconductor; PackageTopMarking: R6D*XTT; CompType: Voltage Reference IC; Published: 4-Dec-2008; DatasheetVersion: Apr-2005; PackageVersion: revB, Mar-2003; PackageReference: MF03A; Publisher: Altium Limited; PackageDescription: Molded SOT-23, .115 x .051 x .037in Body, 3 Lead, .075 in Pitch; RoHS: Y; PinCount: 3; ComponentLink1Description: LM4040 Datasheet; ComponentLink1URL: http://www.national.com/ds/LM/LM4040.pdf; ComponentLink2Description: LM4040 Web Page; ComponentLink2URL: http://www.national.com/pf/LM/LM4040.html; ComponentLink3Description: MF03A Package Page; ComponentLink3URL: http://www.national.com/packaging/folders/mf03a.html
footprint MF03A_N (SOT23, 3-Leads, Body 2.9x1.3mm, Pitch 0.95mm, Lead Span 2.4mm, IPC Medium Density)
footprint MF03A_L (SOT23, 3-Leads, Body 2.9x1.3mm, Pitch 0.95mm, Lead Span 2.4mm, IPC High Density)
footprint MF03A_M (SOT23, 3-Leads, Body 2.9x1.3mm, Pitch 0.95mm, Lead Span 2.4mm, IPC Low Density)
pins: 1 +V, 2 -V, 3 NC

## LM4040DIM3-8.2
designator U?
Precision Micropower Shunt Voltage Reference, 3-pin SOT-23; PartNumber: LM4040DIM3-8.2; Manufacturer: National Semiconductor; PackageTopMarking: R8D*XTT; CompType: Voltage Reference IC; Published: 4-Dec-2008; DatasheetVersion: Apr-2005; PackageVersion: revB, Mar-2003; PackageReference: MF03A; Publisher: Altium Limited; PackageDescription: Molded SOT-23, .115 x .051 x .037in Body, 3 Lead, .075 in Pitch; RoHS: Y; PinCount: 3; ComponentLink1Description: LM4040 Datasheet; ComponentLink1URL: http://www.national.com/ds/LM/LM4040.pdf; ComponentLink2Description: LM4040 Web Page; ComponentLink2URL: http://www.national.com/pf/LM/LM4040.html; ComponentLink3Description: MF03A Package Page; ComponentLink3URL: http://www.national.com/packaging/folders/mf03a.html
footprint MF03A_N (SOT23, 3-Leads, Body 2.9x1.3mm, Pitch 0.95mm, Lead Span 2.4mm, IPC Medium Density)
footprint MF03A_L (SOT23, 3-Leads, Body 2.9x1.3mm, Pitch 0.95mm, Lead Span 2.4mm, IPC High Density)
footprint MF03A_M (SOT23, 3-Leads, Body 2.9x1.3mm, Pitch 0.95mm, Lead Span 2.4mm, IPC Low Density)
pins: 1 +V, 2 -V, 3 NC

## LM4040DIZ-2.0
designator U?
Precision Micropower Shunt Voltage Reference, 3-pin TO-92; PartNumber: LM4040DIZ-2.0; Manufacturer: National Semiconductor; PackageTopMarking: NSXYTT*4040D*-2.0; CompType: Voltage Reference IC; Published: 4-Dec-2008; LatestRevisionDate: 15-Jul-2009; LatestRevisionNote: Sch pins 1 & 3 reversed.; DatasheetVersion: Apr-2005; PackageVersion: revG, Sep-2000; PackageReference: Z03A; Publisher: Altium Limited; PackageDescription: TO-92, Molded, 3 Lead; RoHS: Y; PinCount: 3; Code_JEDEC: TO-226-AA; ComponentLink1Description: LM4040 Datasheet; ComponentLink1URL: http://www.national.com/ds/LM/LM4040.pdf; ComponentLink2Description: LM4040 Web Page; ComponentLink2URL: http://www.national.com/pf/LM/LM4040.html; ComponentLink3Description: Z03A Package Page; ComponentLink3URL: http://www.national.com/packaging/folders/z03a.html
footprint Z03A (TO, Flat Index; 3 In-Line, Axial Leads; Body Dia. 5mm; Leads 0.55 x 0.50 mm (max))
pins: 1 NC, 2 +V, 3 -V

## LM4040DIZ-3.0
designator U?
Precision Micropower Shunt Voltage Reference, 3-pin TO-92; PartNumber: LM4040DIZ-3.0; Manufacturer: National Semiconductor; PackageTopMarking: NSXYTT*4040D*-3.0; CompType: Voltage Reference IC; Published: 4-Dec-2008; LatestRevisionDate: 15-Jul-2009; LatestRevisionNote: Sch pins 1 & 3 reversed.; DatasheetVersion: Apr-2005; PackageVersion: revG, Sep-2000; PackageReference: Z03A; Publisher: Altium Limited; PackageDescription: TO-92, Molded, 3 Lead; RoHS: Y; PinCount: 3; Code_JEDEC: TO-226-AA; ComponentLink1Description: LM4040 Datasheet; ComponentLink1URL: http://www.national.com/ds/LM/LM4040.pdf; ComponentLink2Description: LM4040 Web Page; ComponentLink2URL: http://www.national.com/pf/LM/LM4040.html; ComponentLink3Description: Z03A Package Page; ComponentLink3URL: http://www.national.com/packaging/folders/z03a.html
footprint Z03A (TO, Flat Index; 3 In-Line, Axial Leads; Body Dia. 5mm; Leads 0.55 x 0.50 mm (max))
pins: 1 NC, 2 +V, 3 -V

## LM4040DIZ-8.2
designator U?
Precision Micropower Shunt Voltage Reference, 3-pin TO-92; PartNumber: LM4040DIZ-8.2; Manufacturer: National Semiconductor; PackageTopMarking: NSXYTT*4040D*IZ8.2; CompType: Voltage Reference IC; Published: 4-Dec-2008; LatestRevisionDate: 15-Jul-2009; LatestRevisionNote: Sch pins 1 & 3 reversed.; DatasheetVersion: Apr-2005; PackageVersion: revG, Sep-2000; PackageReference: Z03A; Publisher: Altium Limited; PackageDescription: TO-92, Molded, 3 Lead; RoHS: O; PinCount: 3; Code_JEDEC: TO-226-AA; ComponentLink1Description: LM4040 Datasheet; ComponentLink1URL: http://www.national.com/ds/LM/LM4040.pdf; ComponentLink2Description: LM4040 Web Page; ComponentLink2URL: http://www.national.com/pf/LM/LM4040.html; ComponentLink3Description: Z03A Package Page; ComponentLink3URL: http://www.national.com/packaging/folders/z03a.html
footprint Z03A (TO, Flat Index; 3 In-Line, Axial Leads; Body Dia. 5mm; Leads 0.55 x 0.50 mm (max))
pins: 1 NC, 2 +V, 3 -V

## LM4040EEM3-2.0
designator U?
Precision Micropower Shunt Voltage Reference, 3-pin SOT-23; PartNumber: LM4040EEM3-2.0; Manufacturer: National Semiconductor; PackageTopMarking: RJE*XTT; CompType: Voltage Reference IC; Published: 4-Dec-2008; DatasheetVersion: Apr-2005; PackageVersion: revB, Mar-2003; PackageReference: MF03A; Publisher: Altium Limited; PackageDescription: Molded SOT-23, .115 x .051 x .037in Body, 3 Lead, .075 in Pitch; Supplier 1: Digi-Key; Supplier Part Number 1: LM4040EEM3-2.0-ND; RoHS: N; PinCount: 3; ComponentLink1Description: LM4040 Datasheet; ComponentLink1URL: http://www.national.com/ds/LM/LM4040.pdf; ComponentLink2Description: LM4040 Web Page; ComponentLink2URL: http://www.national.com/pf/LM/LM4040.html; ComponentLink3Description: MF03A Package Page; ComponentLink3URL: http://www.national.com/packaging/folders/mf03a.html
footprint MF03A_N (SOT23, 3-Leads, Body 2.9x1.3mm, Pitch 0.95mm, Lead Span 2.4mm, IPC Medium Density)
footprint MF03A_L (SOT23, 3-Leads, Body 2.9x1.3mm, Pitch 0.95mm, Lead Span 2.4mm, IPC High Density)
footprint MF03A_M (SOT23, 3-Leads, Body 2.9x1.3mm, Pitch 0.95mm, Lead Span 2.4mm, IPC Low Density)
pins: 1 +V, 2 -V, 3 NC

## LM4040EIZ-2.0
designator U?
Precision Micropower Shunt Voltage Reference, 3-pin TO-92; PartNumber: LM4040EIZ-2.0; Manufacturer: National Semiconductor; PackageTopMarking: NSXYTT*4040E*-2.0; CompType: Voltage Reference IC; Published: 4-Dec-2008; LatestRevisionDate: 15-Jul-2009; LatestRevisionNote: Sch pins 1 & 3 reversed.; DatasheetVersion: Apr-2005; PackageVersion: revG, Sep-2000; PackageReference: Z03A; Publisher: Altium Limited; PackageDescription: TO-92, Molded, 3 Lead; RoHS: Y; PinCount: 3; Code_JEDEC: TO-226-AA; ComponentLink1Description: LM4040 Datasheet; ComponentLink1URL: http://www.national.com/ds/LM/LM4040.pdf; ComponentLink2Description: LM4040 Web Page; ComponentLink2URL: http://www.national.com/pf/LM/LM4040.html; ComponentLink3Description: Z03A Package Page; ComponentLink3URL: http://www.national.com/packaging/folders/z03a.html
footprint Z03A (TO, Flat Index; 3 In-Line, Axial Leads; Body Dia. 5mm; Leads 0.55 x 0.50 mm (max))
pins: 1 NC, 2 +V, 3 -V

## LM4040EIZ-2.5
designator U?
Precision Micropower Shunt Voltage Reference, 3-pin TO-92; PartNumber: LM4040EIZ-2.5; Manufacturer: National Semiconductor; PackageTopMarking: NSXYTT*4040E*IZ2.5; CompType: Voltage Reference IC; Published: 4-Dec-2008; LatestRevisionDate: 15-Jul-2009; LatestRevisionNote: Sch pins 1 & 3 reversed.; DatasheetVersion: Apr-2005; PackageVersion: revG, Sep-2000; PackageReference: Z03A; Publisher: Altium Limited; PackageDescription: TO-92, Molded, 3 Lead; RoHS: Y; PinCount: 3; Code_JEDEC: TO-226-AA; ComponentLink1Description: LM4040 Datasheet; ComponentLink1URL: http://www.national.com/ds/LM/LM4040.pdf; ComponentLink2Description: LM4040 Web Page; ComponentLink2URL: http://www.national.com/pf/LM/LM4040.html; ComponentLink3Description: Z03A Package Page; ComponentLink3URL: http://www.national.com/packaging/folders/z03a.html
footprint Z03A (TO, Flat Index; 3 In-Line, Axial Leads; Body Dia. 5mm; Leads 0.55 x 0.50 mm (max))
pins: 1 NC, 2 +V, 3 -V

## LM4040EIZ-3.0
designator U?
Precision Micropower Shunt Voltage Reference, 3-pin TO-92; PartNumber: LM4040EIZ-3.0; Manufacturer: National Semiconductor; PackageTopMarking: NSXYTT*4040E*-3.0; CompType: Voltage Reference IC; Published: 4-Dec-2008; LatestRevisionDate: 15-Jul-2009; LatestRevisionNote: Sch pins 1 & 3 reversed.; DatasheetVersion: Apr-2005; PackageVersion: revG, Sep-2000; PackageReference: Z03A; Publisher: Altium Limited; PackageDescription: TO-92, Molded, 3 Lead; RoHS: Y; PinCount: 3; Code_JEDEC: TO-226-AA; ComponentLink1Description: LM4040 Datasheet; ComponentLink1URL: http://www.national.com/ds/LM/LM4040.pdf; ComponentLink2Description: LM4040 Web Page; ComponentLink2URL: http://www.national.com/pf/LM/LM4040.html; ComponentLink3Description: Z03A Package Page; ComponentLink3URL: http://www.national.com/packaging/folders/z03a.html
footprint Z03A (TO, Flat Index; 3 In-Line, Axial Leads; Body Dia. 5mm; Leads 0.55 x 0.50 mm (max))
pins: 1 NC, 2 +V, 3 -V

## LM4041AIZ-1.2
designator U?
Precision Micropower Shunt Voltage Reference, 3-pin TO-92; PartNumber: LM4041AIZ-1.2; Manufacturer: National Semiconductor; PackageTopMarking: NSXYTT*4041A*IZ1.2; CompType: Voltage Reference IC; Published: 4-Dec-2008; LatestRevisionDate: 15-Jul-2009; LatestRevisionNote: Sch pins 1 & 3 reversed.; DatasheetVersion: Mar-2005; PackageVersion: revG, Sep-2000; PackageReference: Z03A; Publisher: Altium Limited; PackageDescription: TO-92, Molded, 3 Lead; RoHS: Y; PinCount: 3; Code_JEDEC: TO-226-AA; ComponentLink1Description: LM4041 Datasheet; ComponentLink1URL: http://www.national.com/ds/LM/LM4041.pdf; ComponentLink2Description: LM4041 Web Page; ComponentLink2URL: http://www.national.com/pf/LM/LM4041.html; ComponentLink3Description: Z03A Package Page; ComponentLink3URL: http://www.national.com/packaging/folders/z03a.html
footprint Z03A (TO, Flat Index; 3 In-Line, Axial Leads; Body Dia. 5mm; Leads 0.55 x 0.50 mm (max))
pins: 1 NC, 2 +V, 3 -V

## LM4041BIZ-1.2
designator U?
Precision Micropower Shunt Voltage Reference, 3-pin TO-92; PartNumber: LM4041BIZ-1.2; Manufacturer: National Semiconductor; PackageTopMarking: NSXYTT*4041B*IZ1.2; CompType: Voltage Reference IC; Published: 4-Dec-2008; LatestRevisionDate: 15-Jul-2009; LatestRevisionNote: Sch pins 1 & 3 reversed.; DatasheetVersion: Mar-2005; PackageVersion: revG, Sep-2000; PackageReference: Z03A; Publisher: Altium Limited; PackageDescription: TO-92, Molded, 3 Lead; RoHS: Y; PinCount: 3; Code_JEDEC: TO-226-AA; ComponentLink1Description: LM4041 Datasheet; ComponentLink1URL: http://www.national.com/ds/LM/LM4041.pdf; ComponentLink2Description: LM4041 Web Page; ComponentLink2URL: http://www.national.com/pf/LM/LM4041.html; ComponentLink3Description: Z03A Package Page; ComponentLink3URL: http://www.national.com/packaging/folders/z03a.html
footprint Z03A (TO, Flat Index; 3 In-Line, Axial Leads; Body Dia. 5mm; Leads 0.55 x 0.50 mm (max))
pins: 1 NC, 2 +V, 3 -V